# EAGLE library part ELM327P (library elm)
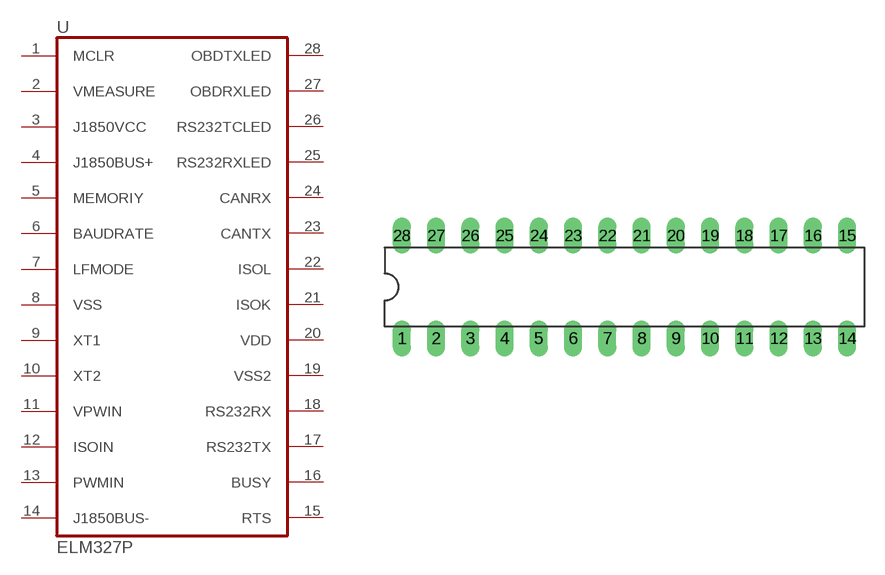
[diagram p6: symbol with the pads of ELM327P; footprint ELM327P]

Designator prefix -

## ELM327P  [ELM327P]
1  MCLR
2  VMEASURE
3  J1850VCC
4  J1850BUS+
5  MEMORIY
6  BAUDRATE
7  LFMODE
8  VSS
9  XT1
10  XT2
11  VPWIN
12  ISOIN
13  PWMIN
14  J1850BUS-
15  RTS
16  BUSY
17  RS232TX
18  RS232RX
19  VSS2
20  VDD
21  ISOK
22  ISOL
23  CANTX
24  CANRX
25  RS232RXLED
26  RS232TCLED
27  OBDRXLED
28  OBDTXLED

## Footprint ELM327P (pad centres in mm)
drill 0.813 long: 1 -15.24,-1.27; 2 -12.7,-1.27; 3 -10.16,-1.27; 4 -7.62,-1.27; 5 -5.08,-1.27; 6 -2.54,-1.27; 7 0,-1.27; 8 2.54,-1.27; 9 5.08,-1.27; 10 7.62,-1.27; 11 10.16,-1.27; 12 12.7,-1.27; 13 15.24,-1.27; 14 17.78,-1.27; 15 17.78,6.35; 16 15.24,6.35; 17 12.7,6.35; 18 10.16,6.35; 19 7.62,6.35; 20 5.08,6.35; 21 2.54,6.35; 22 0,6.35; 23 -2.54,6.35; 24 -5.08,6.35; 25 -7.62,6.35; 26 -10.16,6.35; 27 -12.7,6.35; 28 -15.24,6.35